# Altium integrated library SM05B-NSHSS-TB.IntLib: 1 symbol
Pins are listed as number, name and electrical type; pins without a type are passive.

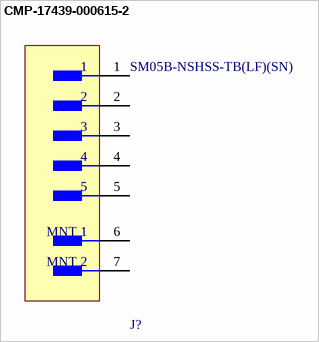
[diagram p0: symbol CMP-17439-000615-2]

## CMP-17439-000615-2
designator J?, comment SM05B-NSHSS-TB(LF)(SN)
CONN HEADER SMD R/A 5POS 1MM; NexarPartId: 58043225; Current Rating: 1A; Connector Type: Outer Shroud Contact; Pitch: 990.6µm; Number of Contacts: 5; Voltage Rating: 50V; Contact Material: Copper, Tin; Termination: Solder; Color: Natural; Mount: Surface Mount; Packaging: Tape & Reel (TR); Height: 4.4mm; Number of Rows: 1; Number of Positions: 5; Lead Free: Lead Free; Max Operating Temperature: 85°C; Min Operating Temperature: -25°C; Contact Plating: Tin; Fastening Type: Latch; RoHS: Compliant
footprint FP-SM05B-NSHSS-TB_LF_SN-MFG
pins: 1, 2, 3, 4, 5, 6 MNT 1, 7 MNT 2